# Altium footprint library 373.PcbLib: 1 footprints
Each footprint in its own frame and in the unit in brackets; x right, y up, seen from the top. Pads: shape width x height; smd on the part's side, far side on the other; paste and mask are expansions set on the pad; w line width, h text height; cw(c..) or ccw(c..) is an arc to the next point about the centre after c.
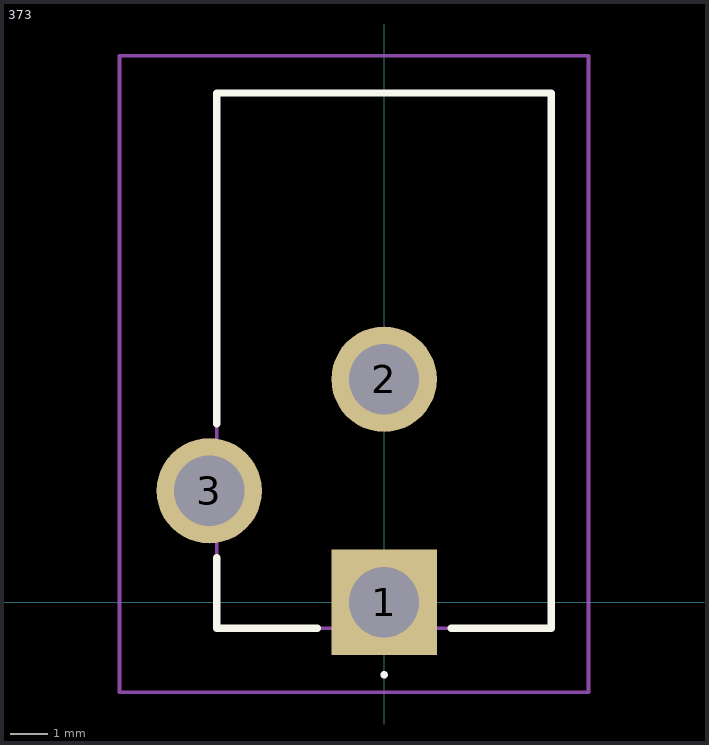
[diagram p0: the footprint, top view; thin cyan lines are the x and y axes]

## 373 [mm]
pads (3):
  rect 2.835x2.835 hole 1.89: 1(0,0)
  round 2.835 hole 1.89: 2(0,6) 3(-4.7,3)
Top Overlay:
  lines w0.1: 0,-2 0,-2 ; 0,-2 ccw(c0,-1.95) 0,-1.9 ; 0,-2 cw(c0,-1.95) 0,-1.9 ; 0,-1.9 0,-1.9
  lines w0.2: -4.5,1.2 -4.5,-0.7 -1.8,-0.7 ; -4.5,4.8 -4.5,13.7 4.5,13.7 4.5,-0.7 1.8,-0.7
Mechanical 15:
  lines w0.1: -4.5,-0.7 4.5,-0.7 4.5,13.7 -4.5,13.7 -4.5,-0.7
Mechanical 20:
  lines w0.1: -7.117,-2.417 5.5,-2.417 5.5,14.7 -7.117,14.7 -7.117,-2.417